# Altium schematic symbol library TVS.SchLib: 5 symbols
Pins are listed as number, name and electrical type; pins without a type are passive.

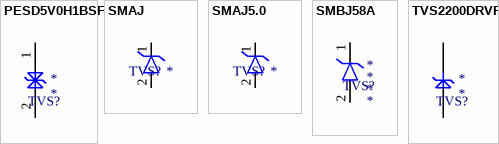
[diagram p0: symbols PESD5V0H1BSF to TVS2200DRVR]

## PESD5V0H1BSF
designator TVS?
-40℃~+125℃ 0.15pF 1 10V 1nA 5V 5V 7A@8/20us Bidirectional ESD IEC 61000-4-2 DSN0603-2 ESD and Surge Protection (TVS/ESD) ROHS; Manufacturer 1: Nexperia; Manufacturer Part Number 1: PESD5V0H1BSF; Package: DSN0603-2; Supplier 1: *; Supplier Part Number 1: *; VCL: *; VRWM: *
footprint PESD5V0H1BSF (Ultra low capacitance bidirectional ESD protection diode)
pins: 1 K, 2 A

## SMAJ
designator TVS?
TVS DIODE DO-214AC, SMA; Manufacturer 1: *; Manufacturer Part Number 1: *; Package: SMA; Supplier 1: JLCPCB; Supplier Part Number 1: *; Value: *
footprint SMAJ (Footprint not found)
pins: 1 K, 2 A

## SMAJ5.0
designator TVS?
TVS DIODE DO-214AC, SMA; Manufacturer 1: *; Manufacturer Part Number 1: *; Package: SMA; Supplier 1: *; Supplier Part Number 1: *; Value: *
footprint SMAJ (Footprint not found)
pins: 1 K, 2 A

## SMBJ58A
designator TVS?
TVS DIODE DO-214AA, SMB; Manufacturer 1: *; Manufacturer Part Number 1: *; Value: *; PD: *; VRV: *; VCL: *; VBR: *
footprint SMBJ58A (TVS DIODE DO-214AA, SMB)
pins: 1 K, 2 A

## TVS2200DRVR
designator TVS?
-40℃~+125℃ 1.12kW@8/20us 105pF 22V 25.9V 27.7V 3.5nA 40A@8/20us IEC 61000-4-2 TVS Unidirectional WSON-6-EP(2x2) ESD and Surge Protection (TVS/ESD) ROHS; Manufacturer 1: Texas Instruments; Manufacturer Part Number 1: TVS2200DRVR; Package: WSON-6-EP(2x2); Supplier 1: *; Supplier Part Number 1: *; VCL: *; VRWM: *
footprint TVS2200DRVR (-40?~+125? 1.12kW@8/20us 105pF 22V 25.9V 27.7V 3.5nA 40A@8/20us IEC 61000-4-2 TVS Unidirectional WSON-6-EP(2x2) ESD and Surge Protection (TVS/ESD) ROHS)
pins: 1 K, 2 K, 3 K, 4 A, 5 A, 6 A, 7 K